# EAGLE library part ADS800 (library burr-brown)
1-Bit, 40 MSPS ADC SE/Diff inputs
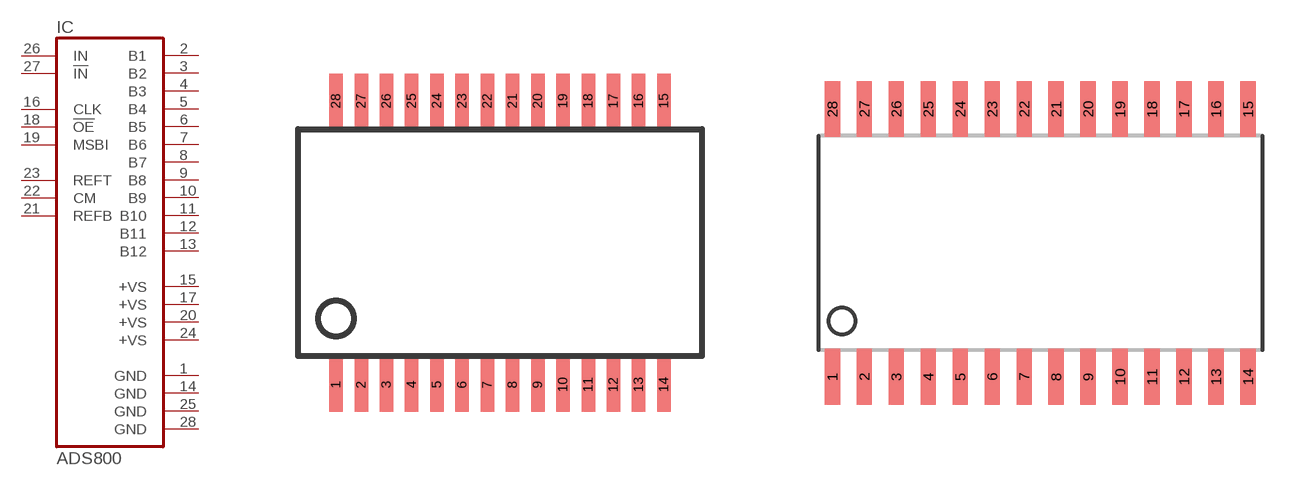
[diagram p42: symbol with the pads of SSOP28BU; footprints SSOP28BU, SO28-3]

Designator prefix IC

## ADS800E (OC_FARNELL: unknown; OC_NEWARK: unknown)  [SSOP28BU]
1  GND  pwr
2  B1  out
3  B2  out
4  B3  out
5  B4  out
6  B5  out
7  B6  out
8  B7  out
9  B8  out
10  B9  out
11  B10  out
12  B11  out
13  B12  out
14  GND  pwr
15  +VS  pwr
16  CLK  in
17  +VS  pwr
18  !OE  in
19  MSBI  in
20  +VS  pwr
21  REFB  pas
22  CM  pas
23  REFT  pas
24  +VS  pwr
25  GND  pwr
26  IN  in
27  !IN  in
28  GND  pwr

## ADS800U (MF: TEXAS INSTRUMENTS; MPN: ADS800U; OC_FARNELL: unknown; OC_NEWARK: 35C1569)  [SO28-3]
Pads as for SSOP28BU

## Footprint SSOP28BU (pad centres in mm)
Small Shrink Outline Package
smd 0.348 x 1.397: 1 -4.225,-3.656; 2 -3.575,-3.656; 3 -2.925,-3.656; 4 -2.275,-3.656; 5 -1.625,-3.656; 6 -0.975,-3.656; 7 -0.325,-3.656; 8 0.325,-3.656; 9 0.975,-3.656; 10 1.625,-3.656; 11 2.275,-3.656; 12 2.925,-3.656; 13 3.575,-3.656; 14 4.225,-3.656; 15 4.225,3.656; 16 3.575,3.656; 17 2.925,3.656; 18 2.275,3.656; 19 1.625,3.656; 20 0.975,3.656; 21 0.325,3.656; 22 -0.325,3.656; 23 -0.975,3.656; 24 -1.625,3.656; 25 -2.275,3.656; 26 -2.925,3.656; 27 -3.575,3.656; 28 -4.225,3.656

## Footprint SO28-3 (pad centres in mm)
Small Outline Package
smd 0.61 x 2.21: 1 -8.255,-5.315; 2 -6.985,-5.315; 3 -5.715,-5.315; 4 -4.445,-5.315; 5 -3.175,-5.315; 6 -1.905,-5.315; 7 -0.635,-5.315; 8 0.635,-5.315; 9 1.905,-5.315; 10 3.175,-5.315; 11 4.445,-5.315; 12 5.715,-5.315; 13 6.985,-5.315; 14 8.255,-5.315; 15 8.255,5.315; 16 6.985,5.315; 17 5.715,5.315; 18 4.445,5.315; 19 3.175,5.315; 20 1.905,5.315; 21 0.635,5.315; 22 -0.635,5.315; 23 -1.905,5.315; 24 -3.175,5.315; 25 -4.445,5.315; 26 -5.715,5.315; 27 -6.985,5.315; 28 -8.255,5.315